# EAGLE library part SN65HVD234 (library ck_custom)
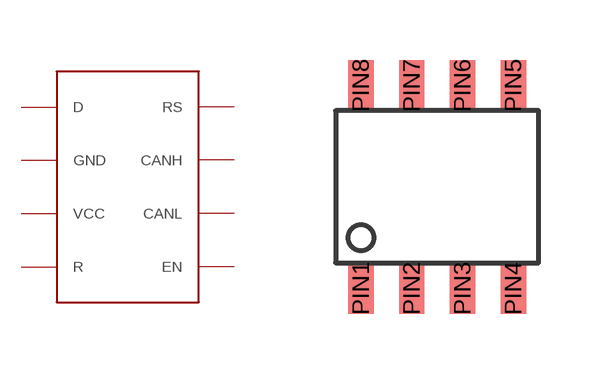
[diagram p5: symbol with the pads of SOIC8; footprint SOIC8]

Designator prefix -

## SN65HVD234  [SOIC8]
PIN1  D
PIN2  GND
PIN3  VCC
PIN4  R
PIN5  EN
PIN6  CANL
PIN7  CANH
PIN8  RS

## Footprint SOIC8 (pad centres in mm)
SOIC8 package type.
smd 0.635 x 1.27: PIN1 0.635,-0.635; PIN2 1.905,-0.635; PIN3 3.175,-0.635; PIN4 4.445,-0.635; PIN5 4.445,4.445; PIN6 3.175,4.445; PIN7 1.905,4.445; PIN8 0.635,4.445